# EAGLE library part DMMT5401 (library FirePick)
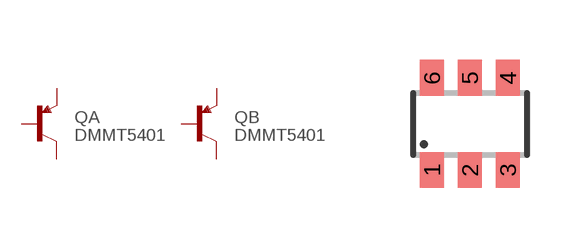
[diagram p9: symbol with the pads of SOT23-6; footprint SOT23-6]

Designator prefix Q; gates A=PNP B=PNP

## DMMT5401  [SOT23-6]
1  A:C  pas
2  A:B  pas
3  B:B  pas
4  B:C  pas
5  B:E  pas
6  A:E  pas

## Footprint SOT23-6 (pad centres in mm)
smd 0.6 x 0.9: 1 -0.95,-1.15; 2 0,-1.15; 3 0.95,-1.15; 4 0.95,1.15; 5 0,1.15; 6 -0.95,1.15